# Altium footprint library Photocoupler.PcbLib: 9 footprints
Each footprint in its own frame and in the unit in brackets; x right, y up, seen from the top. Pads: shape width x height; smd on the part's side, far side on the other; paste and mask are expansions set on the pad; w line width, h text height; cw(c..) or ccw(c..) is an arc to the next point about the centre after c.
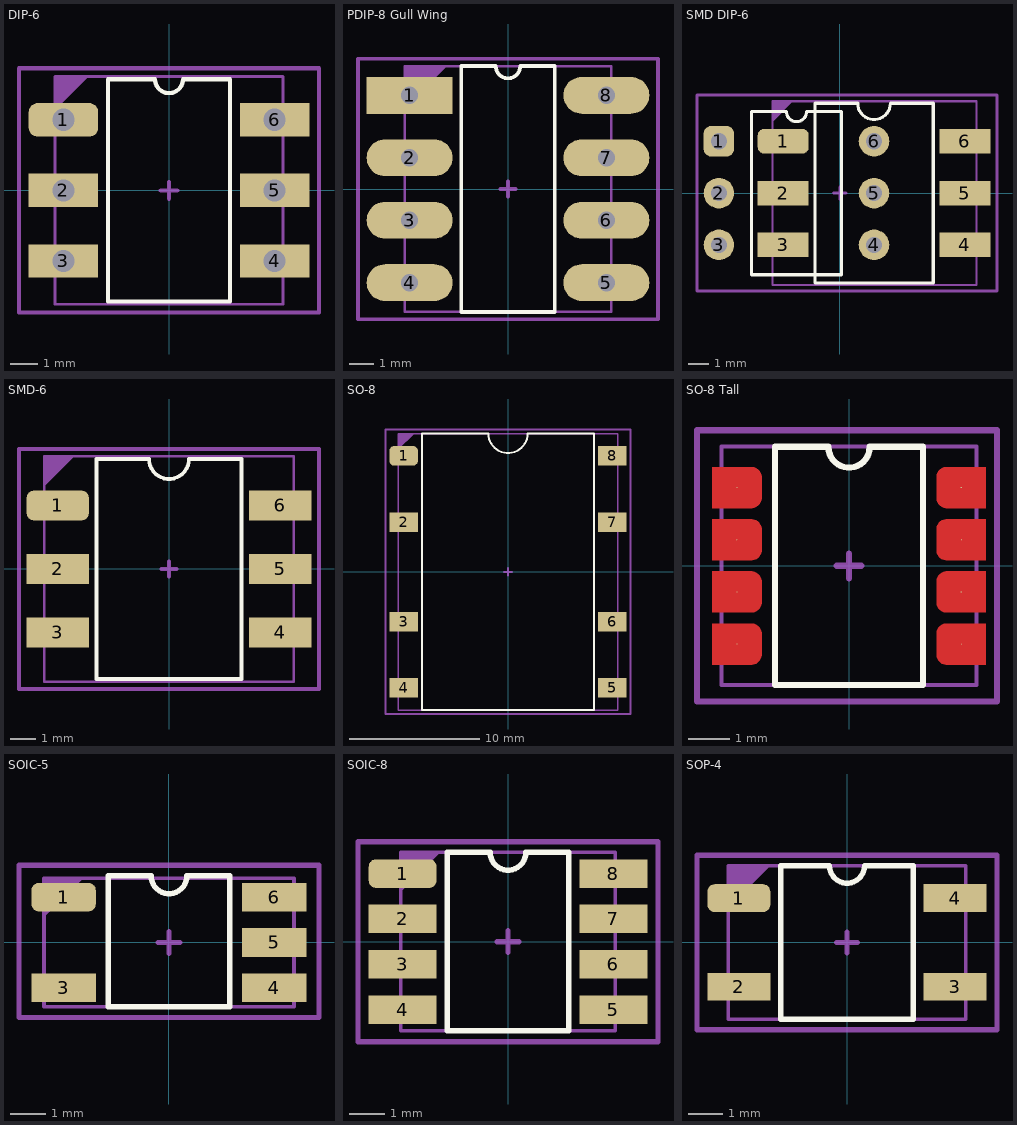
[diagram p0: the footprints below, top view; thin cyan lines are the x and y axes]

## DIP-6 [mm]
pads (6):
  rrect50% 2.5x1.2 hole 0.8: 1(-3.8,2.54)
  rect 2.5x1.2 hole 0.8: 2(-3.8,0) 3(-3.8,-2.54) 4(3.8,-2.54) 5(3.8,0) 6(3.8,2.54)
Top Overlay:
  lines w0.153: -2.2,-4 2.2,-4 2.2,4 0.5,4 cw(c0,4) -0.5,4 -2.2,4 -2.2,-4
Top Assembly:
  region: -4.1,4.1 -2.9,4.1 -4.1,2.9
  lines w0.1: -4.1,-4.1 4.1,-4.1 4.1,4.1 -4.1,4.1 -4.1,-4.1
  text "'.Designator'" at -4.532,-0.333 h0.8
Top Courtyard (Mech6):
  lines w0.153: -0.3,0 0.3,0 ; 0,-0.3 0,0.3 ; -5.4,-4.4 -5.4,4.4 5.4,4.4 5.4,-4.4 -5.4,-4.4
3D body "CircuitWorks-DIP6.step": height 4.31, standoff -3.28, extent -3.99,-4.04 4.01,4.04

## PDIP-8 Gull Wing [mm]
pads (8):
  rect 3.5x1.5 hole 0.7: 1(-4,3.81)
  oval 3.5x1.5 hole 0.7: 2(-4,1.27) 3(-4,-1.27) 4(-4,-3.81) 5(4,-3.81) 6(4,-1.27) 7(4,1.27) 8(4,3.81)
Top Overlay:
  lines w0.153: -1.9,-5 1.9,-5 1.9,5 0.5,5 cw(c0,5) -0.5,5 -1.9,5 -1.9,-5
Top Assembly:
  region: -4.2,5 -4.2,3.3 -2.5,5
  lines w0.1: -4.2,-5 4.2,-5 4.2,5 -4.2,5 -4.2,-5
  text "'.Designator'" at -4.532,-0.333 h0.8
Top Courtyard (Mech6):
  lines w0.153: -0.3,0 0.3,0 ; 0,-0.3 0,0.3 ; -6.1,-5.3 -6.1,5.3 6.1,5.3 6.1,-5.3 -6.1,-5.3
3D body "User Library-PDIP-8.step": height 5.1, standoff -3.18, extent -4.13,-5 4.13,5

## SMD DIP-6 [mm]
pads (12):
  rrect50% 1.5x1.5 hole 0.8: 1(-5.925,2.54)
  rrect50% 2.5x1.2 smd: 1(-2.775,2.54)
  round 1.5 hole 0.8: 2(-5.925,0) 3(-5.925,-2.54) 4(1.675,-2.54) 5(1.675,0) 6(1.675,2.54)
  rect 2.5x1.2 smd: 2(-2.775,0) 3(-2.775,-2.54) 4(6.125,-2.54) 5(6.125,0) 6(6.125,2.54)
Top Overlay:
  lines w0.153: -4.325,-4 0.075,-4 0.075,4 -1.625,4 cw(c-2.125,4) -2.625,4 -4.325,4 -4.325,-4 ; -1.225,-4.4 4.575,-4.4 4.575,4.4 2.475,4.4 cw(c1.675,4.4) 0.875,4.4 -1.225,4.4 -1.225,-4.4
Top Assembly:
  region: -3.3,4.5 -3.3,3.5 -2.3,4.5
  lines w0.1: -3.3,-4.5 6.7,-4.5 6.7,4.5 -3.3,4.5 -3.3,-4.5
  text "'.Designator'" at -4.532,-0.333 h0.8
Top Courtyard (Mech6):
  lines w0.153: -0.3,0 0.3,0 ; 0,-0.3 0,0.3 ; -7,-4.8 7.7,-4.8 7.7,4.8 -7,4.8 -7,-4.8
3D body "User Library-MOC8050SR2M.STEP": height 5.13, standoff 0.01, extent -3.277,-4.445 6.627,4.445

## SMD-6 [mm]
pads (6):
  rrect50% 2.5x1.2 smd: 1(-4.45,2.54)
  rect 2.5x1.2 smd: 2(-4.45,0) 3(-4.45,-2.54) 4(4.45,-2.54) 5(4.45,0) 6(4.45,2.54)
Top Overlay:
  lines w0.153: -2.9,-4.4 2.9,-4.4 2.9,4.4 0.8,4.4 cw(c0,4.4) -0.8,4.4 -2.9,4.4 -2.9,-4.4
Top Assembly:
  region: -5,4.5 -3.8,4.5 -5,3.3
  lines w0.1: -5,-4.5 5,-4.5 5,4.5 -5,4.5 -5,-4.5
  text "'.Designator'" at -4.532,-0.333 h0.8
Top Courtyard (Mech6):
  lines w0.153: -0.3,0 0.3,0 ; 0,-0.3 0,0.3 ; -6,-4.8 -6,4.8 6,4.8 6,-4.8 -6,-4.8
3D body "User Library-MOC8050SR2M.STEP": height 5.13, standoff 0.01, extent -4.952,-4.445 4.952,4.445

## SO-8 [mm]
pads (8):
  rrect50% 2.2x1.5 smd: 1(-8,8.891)
  rect 2.2x1.5 smd: 2(-8,3.811) 3(-8,-3.811) 4(-8,-8.891) 5(8,-8.891) 6(8,-3.811) 7(8,3.811) 8(8,8.891)
Top Overlay:
  lines w0.153: -6.6,-10.6 6.6,-10.6 6.6,10.6 1.5,10.6 cw(c0,10.6) -1.5,10.6 -6.6,10.6 -6.6,-10.6
Top Assembly:
  region: -8.4,10.6 -7.2,10.6 -8.4,9.4
  lines w0.1: -8.4,-10.6 -8.4,10.6 8.4,10.6 8.4,-10.6 -8.4,-10.6
  text "'.Designator'" at -4.532,-0.333 h0.8
Top Courtyard (Mech6):
  lines w0.153: -0.3,0 0.3,0 ; 0,-0.3 0,0.3 ; -9.4,-10.9 9.4,-10.9 9.4,10.9 -9.4,10.9 -9.4,-10.9
3D body "CPC1907B--3DModel-STEP-56544.STEP": height 3.48, standoff 0, extent -8.382,-10.541 8.382,10.541

## SO-8 Tall [mil]
pads (8):
  round 1 smd: 1(-107.48,75) 2(-107.48,-25) 3(-107.48,25) 4(-107.48,-75) 5(107.48,75) 6(107.48,25) 7(107.48,-25) 8(107.48,-75)
Top Layer:
  region: 93.7,5.31 92.73,5.31 90.83,5.69 89.04,6.44 87.43,7.51 86.06,8.88 84.98,10.5 84.24,12.29 83.86,14.19 83.86,15.16 83.86,34.84 83.86,35.81 84.24,37.71 84.98,39.5 86.06,41.12 87.43,42.49 89.04,43.56 90.83,44.31 92.73,44.69 93.7,44.69 131.1,44.69 131.1,5.31
  region: 93.7,55.31 92.73,55.31 90.83,55.69 89.04,56.44 87.43,57.51 86.06,58.88 84.98,60.5 84.24,62.29 83.86,64.19 83.86,65.16 83.86,84.84 83.86,85.81 84.24,87.71 84.98,89.5 86.06,91.12 87.43,92.49 89.04,93.56 90.83,94.31 92.73,94.69 93.7,94.69 131.1,94.69 131.1,55.31
  region: 93.7,-44.69 92.73,-44.69 90.83,-44.31 89.04,-43.56 87.43,-42.49 86.06,-41.12 84.98,-39.5 84.24,-37.71 83.86,-35.81 83.86,-34.84 83.86,-15.16 83.86,-14.19 84.24,-12.29 84.98,-10.5 86.06,-8.88 87.43,-7.51 89.04,-6.44 90.83,-5.69 92.73,-5.31 93.7,-5.31 131.1,-5.31 131.1,-44.69
  region: 93.7,-94.69 92.73,-94.69 90.83,-94.31 89.04,-93.56 87.43,-92.49 86.06,-91.12 84.98,-89.5 84.24,-87.71 83.86,-85.81 83.86,-84.84 83.86,-65.16 83.86,-64.19 84.24,-62.29 84.98,-60.5 86.06,-58.88 87.43,-57.51 89.04,-56.44 90.83,-55.69 92.73,-55.31 93.7,-55.31 131.1,-55.31 131.1,-94.69
  region: -93.7,-94.69 -131.1,-94.69 -131.1,-55.31 -93.7,-55.31 -92.73,-55.31 -90.83,-55.69 -89.04,-56.44 -87.43,-57.51 -86.06,-58.88 -84.98,-60.5 -84.24,-62.29 -83.86,-64.19 -83.86,-65.16 -83.86,-84.84 -83.86,-85.81 -84.24,-87.71 -84.98,-89.5 -86.06,-91.12 -87.43,-92.49 -89.04,-93.56 -90.83,-94.31 -92.73,-94.69
  region: -93.7,5.31 -131.1,5.31 -131.1,44.69 -93.7,44.69 -92.73,44.69 -90.83,44.31 -89.04,43.56 -87.43,42.49 -86.06,41.12 -84.98,39.5 -84.24,37.71 -83.86,35.81 -83.86,34.84 -83.86,15.16 -83.86,14.19 -84.24,12.29 -84.98,10.5 -86.06,8.88 -87.43,7.51 -89.04,6.44 -90.83,5.69 -92.73,5.31
  region: -93.7,-44.69 -131.1,-44.69 -131.1,-5.31 -93.7,-5.31 -92.73,-5.31 -90.83,-5.69 -89.04,-6.44 -87.43,-7.51 -86.06,-8.88 -84.98,-10.5 -84.24,-12.29 -83.86,-14.19 -83.86,-15.16 -83.86,-34.84 -83.86,-35.81 -84.24,-37.71 -84.98,-39.5 -86.06,-41.12 -87.43,-42.49 -89.04,-43.56 -90.83,-44.31 -92.73,-44.69
  region: -93.7,55.31 -131.1,55.31 -131.1,94.69 -93.7,94.69 -92.73,94.69 -90.83,94.31 -89.04,93.56 -87.43,92.49 -86.06,91.12 -84.98,89.5 -84.24,87.71 -83.86,85.81 -83.86,84.84 -83.86,65.16 -83.86,64.19 -84.24,62.29 -84.98,60.5 -86.06,58.88 -87.43,57.51 -89.04,56.44 -90.83,55.69 -92.73,55.31
Top Overlay:
  lines w6.02: -19.68,113.78 ccw(c0,113.78) 19.69,113.78 ; -19.68,114.17 -70.87,114.17 -70.87,-114.17 70.87,-114.17 70.87,114.17 19.69,114.17
Top Assembly:
  lines w3.94: -122.05,-114.17 122.05,-114.17 122.05,114.17 -122.05,114.17 -122.05,-114.17
  text "'.Designator'" at -178.42,-13.12 h31.5
Top Courtyard (Mech6):
  lines w6.02: -11.81,0 11.81,0 ; 0,-11.81 0,11.81 ; -145.67,-129.92 141.73,-129.92 141.73,129.92 -145.67,129.92 -145.67,-129.92
3D body "ILD213T--3DModel-STEP-56544.STEP": height 135, standoff 0, extent -120,-115 120,115

## SOIC-5 [mm]
pads (5):
  rrect50% 1.8x0.8 smd: 1(-2.95,1.27)
  rect 1.8x0.8 smd: 3(-2.95,-1.27) 4(2.95,-1.27) 5(2.95,0) 6(2.95,1.27)
Top Overlay:
  lines w0.153: -1.7,-1.8 1.7,-1.8 1.7,1.865 0.5,1.865 cw(c0,1.865) -0.5,1.865 -1.7,1.865 -1.7,-1.8
Top Assembly:
  region: -3.5,1.8 -3.5,0.7 -2.4,1.8
  lines w0.1: -3.5,-1.8 -3.5,1.8 3.5,1.8 3.5,-1.8 -3.5,-1.8
  text "'.Designator'" at -4.532,-0.333 h0.8
Top Courtyard (Mech6):
  lines w0.153: -0.3,0 0.3,0 ; 0,-0.3 0,0.3 ; -4.2,-2.1 4.2,-2.1 4.2,2.165 -4.2,2.165 -4.2,-2.1
3D body "User Library-SO-5.STEP": height 2.49, standoff 0, extent -3.5,-1.8 3.5,1.8

## SOIC-8 [mm]
pads (8):
  rrect50% 1.9x0.8 smd: 1(-2.95,1.905)
  rect 1.9x0.8 smd: 2(-2.95,0.635) 3(-2.95,-0.635) 4(-2.95,-1.905) 5(2.95,-1.905) 6(2.95,-0.635) 7(2.95,0.635) 8(2.95,1.905)
Top Overlay:
  lines w0.153: -1.7,-2.5 1.7,-2.5 1.7,2.5 0.5,2.5 cw(c0,2.5) -0.5,2.5 -1.7,2.5 -1.7,-2.5
Top Assembly:
  region: -3,2.5 -3,1.4 -1.9,2.5
  lines w0.1: -3,-2.5 -3,2.5 3,2.5 3,-2.5 -3,-2.5
  text "'.Designator'" at -4.532,-0.333 h0.8
Top Courtyard (Mech6):
  lines w0.153: -0.3,0 0.3,0 ; 0,-0.3 0,0.3 ; -4.2,-2.8 4.2,-2.8 4.2,2.8 -4.2,2.8 -4.2,-2.8
3D body "CircuitWorks-SO-8 (PIC12FXXX).step": height 1.6, standoff 0, extent -2.995,-2.45 2.995,2.45

## SOP-4 [mm]
pads (4):
  rrect50% 1.8x0.8 smd: 1(-3.1,1.27)
  rect 1.8x0.8 smd: 2(-3.1,-1.27) 3(3.1,-1.27) 4(3.1,1.27)
Top Overlay:
  lines w0.153: -1.9,-2.2 -1.9,2.2 -0.5,2.2 ccw(c0,2.2) 0.5,2.2 1.9,2.2 1.9,-2.2 -1.9,-2.2
Top Assembly:
  region: -3.4,2.2 -2.2,2.2 -3.4,1
  lines w0.1: -3.4,-2.2 -3.4,2.2 3.4,2.2 3.4,-2.2 -3.4,-2.2
  text "'.Designator'" at -4.532,-0.333 h0.8
Top Courtyard (Mech6):
  lines w0.153: -0.3,0 0.3,0 ; 0,-0.3 0,0.3 ; -4.3,-2.5 -4.3,2.5 4.3,2.5 4.3,-2.5 -4.3,-2.5
3D body "User Library-4-SOP.STEP": height 2.1, standoff 0, extent -3.4,-2.15 3.4,2.15